# Altium footprint library XCVR_CD-PA1616D.PcbLib: 1 footprints
Each footprint in its own frame and in the unit in brackets; x right, y up, seen from the top. Pads: shape width x height; smd on the part's side, far side on the other; paste and mask are expansions set on the pad; w line width, h text height; cw(c..) or ccw(c..) is an arc to the next point about the centre after c.
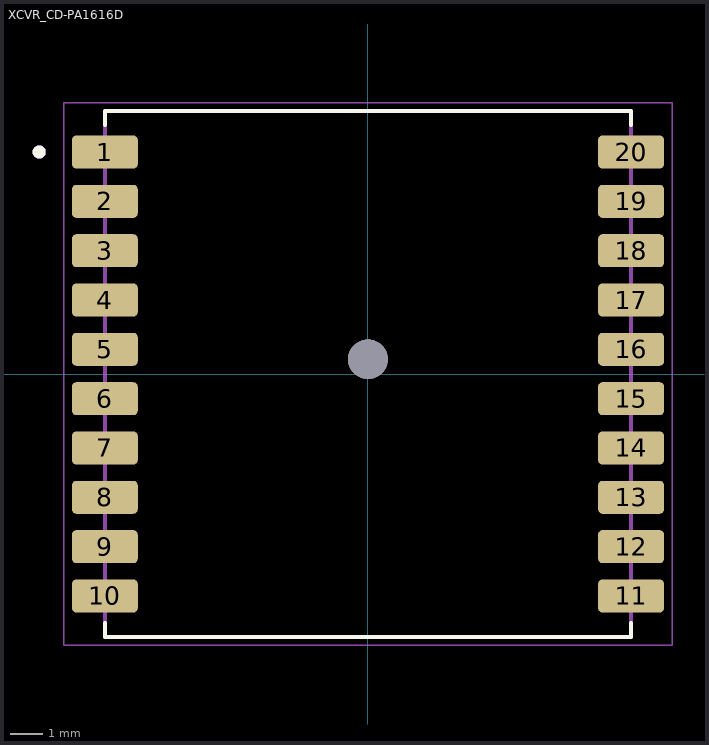
[diagram p0: the footprint, top view; thin cyan lines are the x and y axes]

## XCVR_CD-PA1616D [mm]
height 6.7
pads (21):
  rrect25% 2x1 smd: 1(-8,6.75) 2(-8,5.25) 3(-8,3.75) 4(-8,2.25) 5(-8,0.75) 6(-8,-0.75) 7(-8,-2.25) 8(-8,-3.75) 9(-8,-5.25) 10(-8,-6.75) 11(8,-6.75) 12(8,-5.25) 13(8,-3.75) 14(8,-2.25) 15(8,-0.75) 16(8,0.75) 17(8,2.25) 18(8,3.75) 19(8,5.25) 20(8,6.75)
  round 1.21 hole 1.21 unplated: ""(0,0.45)
Top Overlay:
  circle w0.2: c-10,6.75 r0.1
  lines w0.127: -8,-7.57 -8,-8 8,-8 8,-7.57 ; -8,7.57 -8,8 8,8 8,7.57
Mechanical 13:
  circle w0.2: c-10,6.75 r0.1
  lines w0.127: -8,-8 -8,8 8,8 8,-8 -8,-8
Mechanical 15:
  lines w0.05: -9.25,-8.25 -9.25,8.25 9.25,8.25 9.25,-8.25 -9.25,-8.25
3D body "step_temp.STEP": height 6.7, standoff 0, extent -8,-8 8,8